# Altium footprint library Fromm.PcbLib: 105 footprints (part 4 of 7)
Each footprint in its own frame and in the unit in brackets; x right, y up, seen from the top. Pads: shape width x height; smd on the part's side, far side on the other; paste and mask are expansions set on the pad; w line width, h text height; cw(c..) or ccw(c..) is an arc to the next point about the centre after c.
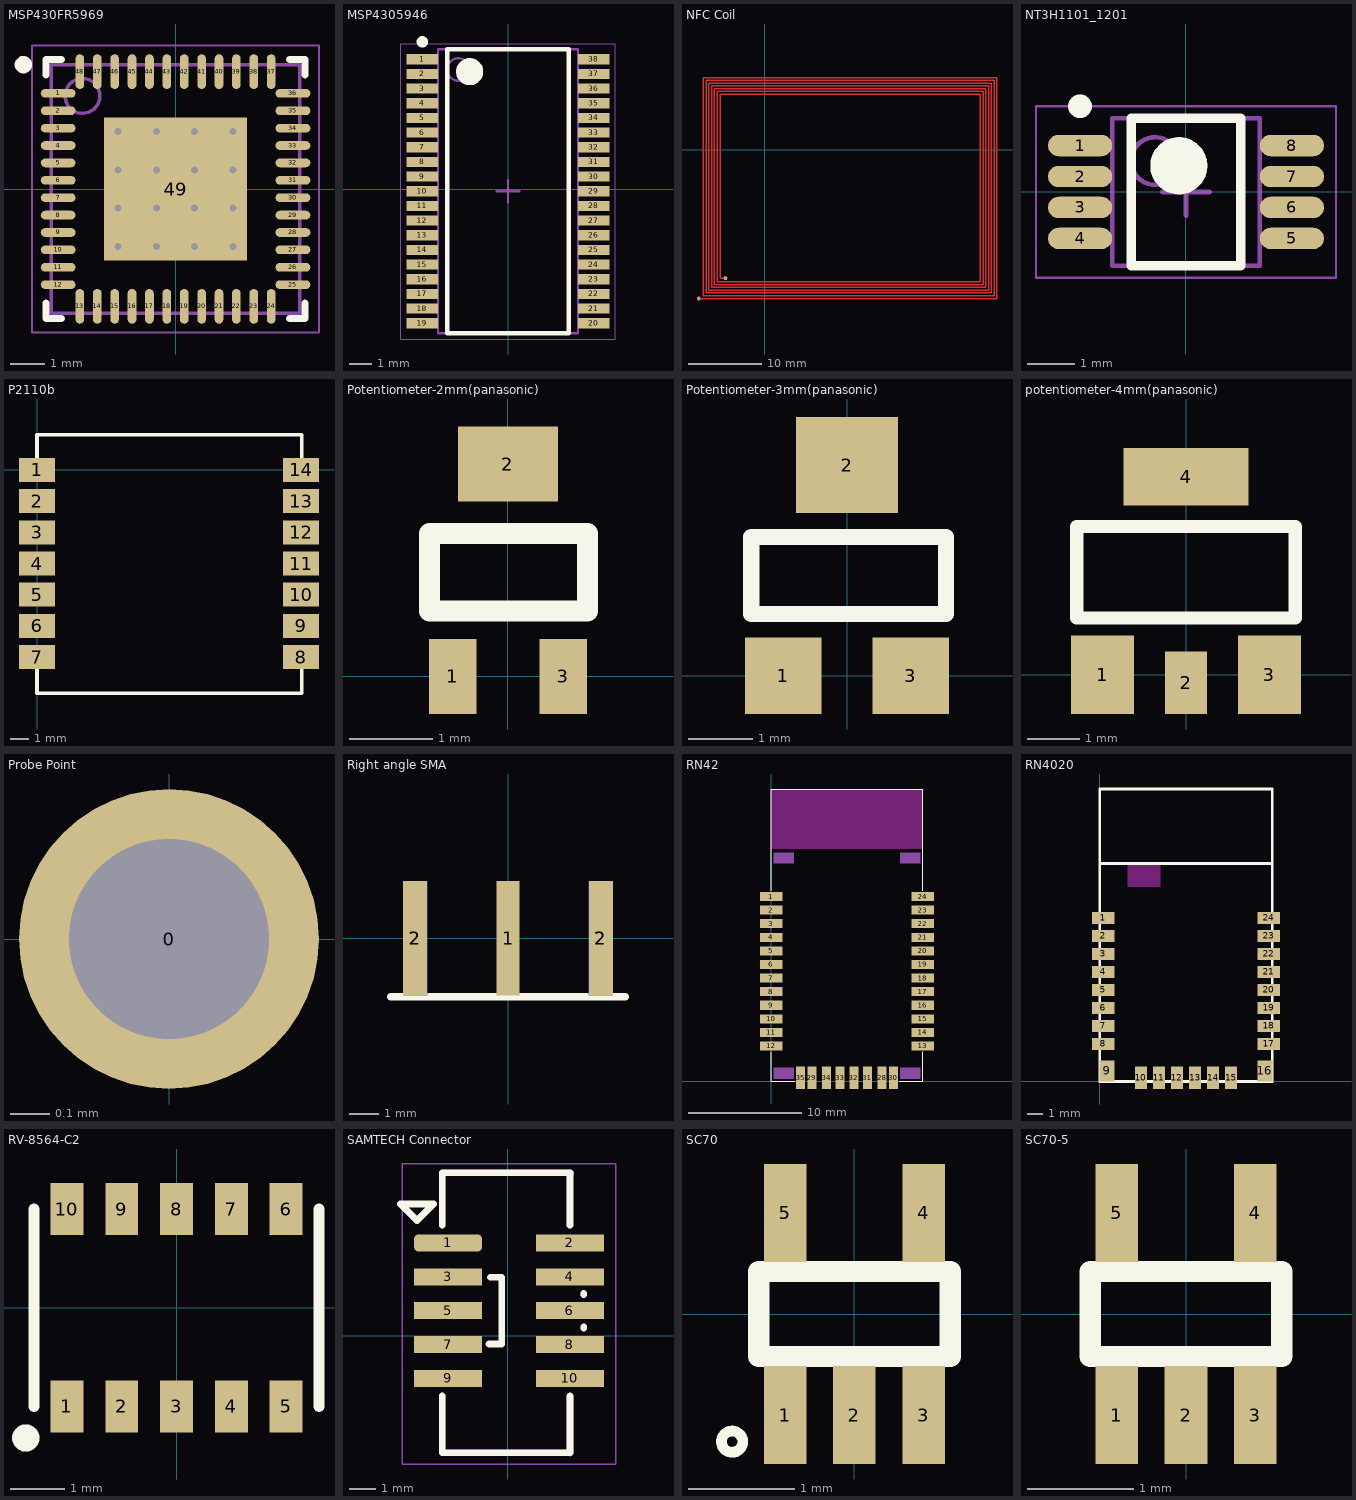
[diagram p3: the footprints below, top view; thin cyan lines are the x and y axes]

## MSP430FR5969 [mm] "TI MCU"
height 1
pads (49):
  oval 1x0.25 smd: 1(-3.375,2.75) 2(-3.375,2.25) 3(-3.375,1.75) 4(-3.375,1.25) 5(-3.375,0.75) 6(-3.375,0.25) 7(-3.375,-0.25) 8(-3.375,-0.75) 9(-3.375,-1.25) 10(-3.375,-1.75) 11(-3.375,-2.25) 12(-3.375,-2.75) 25(3.375,-2.75) 26(3.375,-2.25) 27(3.375,-1.75) 28(3.375,-1.25) 29(3.375,-0.75) 30(3.375,-0.25) 31(3.375,0.25) 32(3.375,0.75) 33(3.375,1.25) 34(3.375,1.75) 35(3.375,2.25) 36(3.375,2.75)
  oval 0.25x1 smd: 13(-2.75,-3.375) 14(-2.25,-3.375) 15(-1.75,-3.375) 16(-1.25,-3.375) 17(-0.75,-3.375) 18(-0.25,-3.375) 19(0.25,-3.375) 20(0.75,-3.375) 21(1.25,-3.375) 22(1.75,-3.375) 23(2.25,-3.375) 24(2.75,-3.375) 37(2.75,3.375) 38(2.25,3.375) 39(1.75,3.375) 40(1.25,3.375) 41(0.75,3.375) 42(0.25,3.375) 43(-0.25,3.375) 44(-0.75,3.375) 45(-1.25,3.375) 46(-1.75,3.375) 47(-2.25,3.375) 48(-2.75,3.375)
  rect 4.1x4.1 smd: 49(0,0)
via 1.65,-1.65 diameter 0.5 hole 0.2
via 0.55,-1.65 diameter 0.5 hole 0.2
via -0.55,-1.65 diameter 0.5 hole 0.2
via -1.65,-1.65 diameter 0.5 hole 0.2
via 1.65,-0.55 diameter 0.5 hole 0.2
via 0.55,-0.55 diameter 0.5 hole 0.2
via -0.55,-0.55 diameter 0.5 hole 0.2
via -1.65,-0.55 diameter 0.5 hole 0.2
via 1.65,0.55 diameter 0.5 hole 0.2
via 0.55,0.55 diameter 0.5 hole 0.2
via -0.55,0.55 diameter 0.5 hole 0.2
via -1.65,0.55 diameter 0.5 hole 0.2
via 1.65,1.65 diameter 0.5 hole 0.2
via 0.55,1.65 diameter 0.5 hole 0.2
via -0.55,1.65 diameter 0.5 hole 0.2
via -1.65,1.65 diameter 0.5 hole 0.2
Top Overlay:
  circle w0.25: c-4.375,3.575 r0.125
  lines w0.2: -3.725,-3.275 -3.725,-3.725 -3.275,-3.725 ; -3.725,3.275 -3.725,3.725 -3.275,3.725 ; 3.275,-3.725 3.725,-3.725 3.725,-3.275 ; 3.275,3.725 3.725,3.725 3.725,3.275
Mechanical 13:
  circle w0.1: c-2.675,2.675 r0.5
  lines w0.1: -3.575,-3.575 3.575,-3.575 3.575,3.575 -3.575,3.575 -3.575,-3.575
Mechanical 15:
  lines w0.05: -4.125,-4.125 4.125,-4.125 4.125,4.125 -4.125,4.125 -4.125,-4.125
  lines w0.1: -0.5,0 0.5,0 ; 0,-0.5 0,0.5
3D body: height 1, standoff 0.2, extent -3.575,-3.575 3.575,3.575

## MSP4305946 [mm] "38 SOP"
pads (38):
  rect 1.4x0.45 smd: 1(-3.8,5.75) 2(-3.8,5.1) 3(-3.8,4.45) 4(-3.8,3.8) 5(-3.8,3.15) 6(-3.8,2.5) 7(-3.8,1.85) 8(-3.8,1.2) 9(-3.8,0.55) 10(-3.8,-0.1) 11(-3.8,-0.75) 12(-3.8,-1.4) 13(-3.8,-2.05) 14(-3.8,-2.7) 15(-3.8,-3.35) 16(-3.8,-4) 17(-3.8,-4.65) 18(-3.8,-5.3) 19(-3.8,-5.95) 20(3.8,-5.95) 21(3.8,-5.3) 22(3.8,-4.65) 23(3.8,-4) 24(3.8,-3.35) 25(3.8,-2.7) 26(3.8,-2.05) 27(3.8,-1.4) 28(3.8,-0.75) 29(3.8,-0.1) 30(3.8,0.55) 31(3.8,1.2) 32(3.8,1.85) 33(3.8,2.5) 34(3.8,3.15) 35(3.8,3.8) 36(3.8,4.45) 37(3.8,5.1) 38(3.8,5.75)
Top Overlay:
  circle w0.25: c-3.8,6.525 r0.125
  circle w0.6: c-1.7,5.2 r0.3
  lines w0.2: -2.7,-6.4 -2.7,6.2 2.7,6.2 2.7,-6.4 -2.7,-6.4
Mechanical 13:
  circle w0.1: c-2.2,5.3 r0.5
  lines w0.1: -3.1,-6.4 -3.1,6.2 3.1,6.2 3.1,-6.4 -3.1,-6.4
Mechanical 15:
  lines w0.05: -4.75,-6.65 -4.75,6.45 4.75,6.45 4.75,-6.65 -4.75,-6.65
  lines w0.1: -0.5,-0.1 0.5,-0.1 ; 0,-0.6 0,0.4
3D body: height 1.2, standoff 0.25, extent -3.1,-6.4 3.1,6.2

## NFC Coil [mm] "4.1 uH NFC Coil"
pads (2):
  round 0.5 hole 0.3: 1(-8.95,-20.225) 2(-5.325,-17.45)
Top Layer:
  lines w0.18: -6.07,-17.43 -6.07,7.515 29.27,7.515 29.27,-17.945 -6.45,-17.945 -6.45,7.895 29.65,7.895 29.65,-18.325 -6.83,-18.325 -6.83,8.275 30.03,8.275 30.03,-18.705 -7.21,-18.705 -7.21,8.655 30.41,8.655 30.41,-19.085 -7.59,-19.085 -7.59,9.035 30.79,9.035 30.79,-19.465 -7.97,-19.465 -7.97,9.415 31.17,9.415 ; 31.17,-19.845 31.17,9.395
  lines w0.19: -8.9,-20.225 31.55,-20.225 31.55,9.775 -8.35,9.775 -8.35,-19.845 31.17,-19.845 ; -6.05,-17.45 -5.3,-17.45

## NT3H1101_1201 [mm] "NFC IC with Energy Harvesting"
height 1.1
pads (8):
  oval 1.35x0.45 smd: 1(-2.225,0.975) 2(-2.225,0.325) 3(-2.225,-0.325) 4(-2.225,-0.975) 5(2.225,-0.975) 6(2.225,-0.325) 7(2.225,0.325) 8(2.225,0.975)
Top Overlay:
  circle w0.25: c-2.225,1.8 r0.125
  circle w0.6: c-0.15,0.55 r0.3
  lines w0.2: -1.15,-1.55 -1.15,1.55 1.15,1.55 1.15,-1.55 -1.15,-1.55
Mechanical 13:
  circle w0.1: c-0.65,0.65 r0.5
  lines w0.1: -1.55,-1.55 -1.55,1.55 1.55,1.55 1.55,-1.55 -1.55,-1.55
Mechanical 15:
  lines w0.05: -3.15,-1.8 -3.15,1.8 3.15,1.8 3.15,-1.8 -3.15,-1.8
  lines w0.1: -0.5,0 0.5,0 ; 0,-0.5 0,0.5
3D body: height 1.1, standoff 0.05, extent -1.55,-1.55 1.55,1.55

## P2110b [mil] "Power Harvesting AFE IC"
height 82
pads (14):
  rect 75x50 smd: 1(0,0) 2(0,-65) 3(0,-130) 4(0,-195) 5(0,-260) 6(0,-325) 7(0,-390) 8(550,-390) 9(550,-325) 10(550,-260) 11(550,-195) 12(550,-130) 13(550,-65) 14(550,0)
Top Overlay:
  lines w7.48: 0,-416.5 0,-465.5 551.25,-465.5 551.25,-416.5 ; 0,24.5 0,73.5 551.25,73.5 551.25,24.5

## Potentiometer-2mm(panasonic) [mm]
pads (3):
  rect 0.575x0.9 smd: 1(-0.663,0) 3(0.663,0)
  rect 1.2x0.9 smd: 2(0,2.55)
Top Overlay:
  lines w0.254: -0.94,0.787 0.953,0.787 0.953,1.714 -0.94,1.714 -0.94,0.787

## Potentiometer-3mm(panasonic) [mm]
pads (3):
  rect 1.2x1.2 smd: 1(-1,0) 3(1,0)
  rect 1.6x1.5 smd: 2(0,3.3)
Top Overlay:
  lines w0.254: -1.499,0.965 -1.499,2.172 1.549,2.172 1.549,0.965 -1.499,0.965

## potentiometer-4mm(panasonic) [mm]
pads (4):
  rect 1.2x1.5 smd: 1(-1.6,0) 3(1.6,0)
  rect 0.8x1.2 smd: 2(0,-0.15)
  rect 2.4x1.1 smd: 4(0,3.8)
Top Overlay:
  lines w0.254: -2.095,1.092 -2.095,2.845 2.095,2.845 2.095,1.092 -2.095,1.092

## Probe Point [mil] "35mil Pad, 20mil hole size"
pads (1):
  round 30 hole 20: 0(0,0)

## Right angle SMA [mm] "931-1175-ND"
pads (5):
  rect 0.8x3.9 smd: 1(0,0)
  rect 0.82x3.9 smd: 2(-3.175,0) 2(3.175,0)
  rect 0.82x3.9 smd far side: 2(-3.175,0) 2(3.175,0)
Top Overlay:
  lines w0.254: -4,-2 4,-2

## RN42 [mm] "WIth Antenna Keepout Custom Footprint"
pads (32):
  rect 2x0.8 smd: 1(0,16.3) 2(0,15.1) 3(0,13.9) 4(0,12.7) 5(0,11.5) 6(0,10.3) 7(0,9.1) 8(0,7.9) 9(0,6.7) 10(0,5.5) 11(0,4.3) 12(0,3.1) 13(13.4,3.1) 14(13.4,4.3) 15(13.4,5.5) 16(13.4,6.7) 17(13.4,7.9) 18(13.4,9.1) 19(13.4,10.3) 20(13.4,11.5) 21(13.4,12.7) 22(13.4,13.9) 23(13.4,15.1) 24(13.4,16.3)
  rect 0.8x2 smd: 28(9.8,0.3) 29(3.6,0.3) 30(10.8,0.3) 31(8.5,0.3) 32(7.3,0.3) 33(6.1,0.3) 34(4.9,0.3) 35(2.6,0.3)
Top Overlay:
  lines w0.1: 0,2.6 0,0 2.1,0 ; 0,16.8 0,25.8 13.4,25.8 13.4,16.8 ; 11.3,0 13.4,0 13.4,2.6
Keep-Out Layer:
  rectangle: 0,20.5 13.4,25.8
Mechanical 2:
  rectangle: 11.4,0.2 13.2,1.2
  rectangle: 0.2,0.2 2,1.2
  rectangle: 11.4,19.2 13.2,20.2
  rectangle: 0.2,19.2 2,20.2

## RN4020 [mm] "BLE Module"
pads (24):
  rect 1.5x0.8 smd: 1(0.25,10.9) 2(0.25,9.7) 3(0.25,8.5) 4(0.25,7.3) 5(0.25,6.1) 6(0.25,4.9) 7(0.25,3.7) 8(0.25,2.5) 17(11.25,2.5) 18(11.25,3.7) 19(11.25,4.9) 20(11.25,6.1) 21(11.25,7.3) 22(11.25,8.5) 23(11.25,9.7) 24(11.25,10.9)
  rect 1x1.4 smd: 9(0.5,0.7) 16(11,0.7)
  rect 0.8x1.5 smd: 10(2.75,0.25) 11(3.95,0.25) 12(5.15,0.25) 13(6.35,0.25) 14(7.55,0.25) 15(8.75,0.25)
Top Overlay:
  lines w0.2: 0,14.55 11.5,14.55 ; 0,0 0,19.5 11.5,19.5 11.5,0 0,0
Keep-Out Layer:
  rectangle: 1.85,12.95 4.05,14.55

## RV-8564-C2 [mm] "RV-8564-C2 RTC Package: LCC, 10-Pins, Body 5.2x3.4mm (max), Pitch 1.00mm, IPC Medium Density"
height 1.2
pads (10):
  rect 0.6x0.95 smd: 1(-2,-1.8) 2(-1,-1.8) 3(0,-1.8) 4(1,-1.8) 5(2,-1.8) 6(2,1.8) 7(1,1.8) 8(0,1.8) 9(-1,1.8) 10(-2,1.8)
Top Overlay:
  circle w0.25: c-2.75,-2.375 r0.125
  lines w0.2: -2.6,-1.8 -2.6,1.8 ; 2.6,-1.8 2.6,1.8

## SAMTECH Connector [mm] "SAMTECH-FTSH-105"
pads (10):
  rrect50% 2.54x0.635 smd: 1(-2.236,3.49)
  rect 2.54x0.635 smd: 2(2.336,3.49) 3(-2.236,2.22) 4(2.336,2.22) 5(-2.236,0.95) 6(2.336,0.95) 7(-2.236,-0.32) 8(2.336,-0.32) 9(-2.236,-1.59) 10(2.336,-1.59)
Top Overlay:
  lines w0.25: -0.7,-0.3 -0.225,-0.3 ; -0.65,2.2 -0.225,2.2 ; -4.025,4.95 -3.4,4.325 -2.775,4.95 -4.025,4.95
  lines w0.254: -2.45,-2.25 -2.45,-4.375 2.336,-4.375 2.336,-2.25 ; -2.45,4.15 -2.45,6.125 2.336,6.125 2.336,4.15 ; -0.225,-0.3 -0.225,2.2 ; 2.85,0.3 2.85,0.35 ; 2.85,1.55 2.85,1.6
Mechanical 2:
  lines w0.254: -2.45,-2.25 -2.45,-4.375 2.336,-4.375 ; -2.45,4.15 -2.45,6.125 ; -2.425,6.125 2.361,6.125 ; 2.325,4.15 2.325,6.125 ; 2.336,-4.384 2.336,-2.25 ; 2.85,0.3 2.85,0.35 ; 2.85,1.55 2.85,1.6
Mechanical 15:
  lines w0.05: -3.95,-4.8 -3.95,3.45 -3.95,6.45 4.05,6.45 4.05,-4.8 -3.95,-4.8
3D body "Samtec FTSH-105-01-X-DV-K.STEP": height 6.16, standoff 0.04, extent -2.946,-2.225 2.896,4.125

## SC70 [mm] "Ultra low Power LDO - TI"
height 1.1
pads (5):
  rect 0.4x0.92 smd: 1(-0.65,-0.95) 2(0,-0.95) 3(0.65,-0.95) 4(0.65,0.95) 5(-0.65,0.95)
Top Overlay:
  circle w0.1: c-1.15,-1.2 r0.1
  lines w0.2: -0.9,-0.4 -0.9,0.4 0.9,0.4 0.9,-0.4 -0.9,-0.4

## SC70-5 [mm] "SC70-5"
pads (5):
  rect 0.4x0.92 smd: 1(-0.65,-0.95) 2(0,-0.95) 3(0.65,-0.95) 4(0.65,0.95) 5(-0.65,0.95)
Top Overlay:
  lines w0.2: -0.9,-0.4 0.9,-0.4 0.9,0.4 -0.9,0.4 -0.9,-0.4